# Altium schematic symbol library pads.SchLib: 1 symbol
Pins are listed as number, name and electrical type; pins without a type are passive.

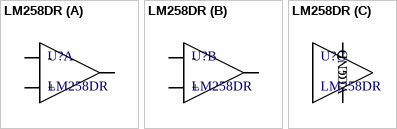
[diagram p0: symbol LM258DR]

## LM258DR
designator U?
Dual-Operational Amplifiers; TemperatureRange: 0..85C; HelpURL: http://www.tme.eu/pl/Document/2525a751f01d4ccb68a58ffbd3bbc077/LM258DR.pdf; Supplier 1: TME; Supplier Part Number 1: LM258DR
footprint SO8
part A pins: 1 OUT1, 2 -, 3 +
part B pins: 5 +, 6 -, 7 OUT2
part C pins: 4 GND, 8 VCC